# Altium footprint library MAX9744_POWER.PcbLib: 1 footprints
Each footprint in its own frame and in the unit in brackets; x right, y up, seen from the top. Pads: shape width x height; smd on the part's side, far side on the other; paste and mask are expansions set on the pad; w line width, h text height; cw(c..) or ccw(c..) is an arc to the next point about the centre after c.
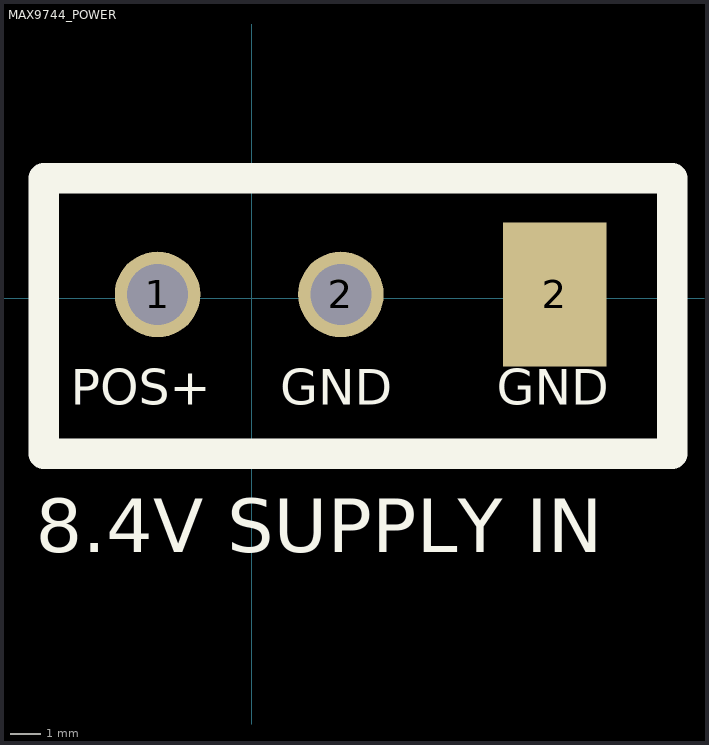
[diagram p0: the footprint, top view; thin cyan lines are the x and y axes]

## MAX9744_POWER [mm]
pads (3):
  round 2.8 hole 2: 1(-3.079,0.127) 2(2.921,0.127)
  rect 3.4x4.7 smd: 2(9.921,0.127)
Top Overlay:
  lines w1: -6.81,-5.08 13.764,-5.08 13.764,3.937 -6.81,3.937 -6.81,-5.08
  text "GND" at 8.019,-3.873 h2
  text "POS+" at -5.919,-3.873 h2
  text "GND" at 0.94,-3.873 h2
  text "8.4V SUPPLY IN" at -7.063,-8.89 h3